# Altium schematic symbol library ESP32_Carrier.SchLib: 1 symbol
Pins are listed as number, name and electrical type; pins without a type are passive.

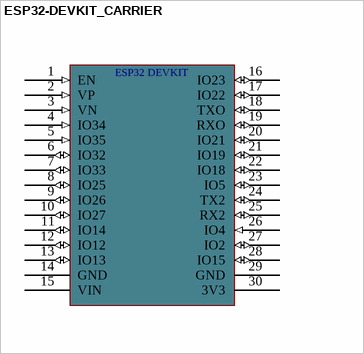
[diagram p0: symbol ESP32-DEVKIT_CARRIER]

## ESP32-DEVKIT_CARRIER
designator *
footprint ESP32_DEVKIT_CARRIER
pins: 1 EN (in), 2 VP (in), 3 VN (in), 4 IO34 (in), 5 IO35 (in), 6 IO32 (io), 7 IO33 (io), 8 IO25 (io), 9 IO26 (io), 10 IO27 (io), 11 IO14 (io), 12 IO12 (io), 13 IO13 (io), 14 GND (power), 15 VIN (power), 16 IO23 (io), 17 IO22 (io), 18 TXO (io), 19 RXO (io), 20 IO21 (io), 21 IO19 (io), 22 IO18 (io), 23 IO5 (io), 24 TX2 (io), 25 RX2 (io), 26 IO4 (in), 27 IO2 (io), 28 IO15 (io), 29 GND (power), 30 3V3 (power)
text: ESP32 DEVKIT